# EAGLE library part ADXL312 (library analog)
3-Axis, Digital Accelerometer ±1.5 g/±3 g/±6 g/±12 g
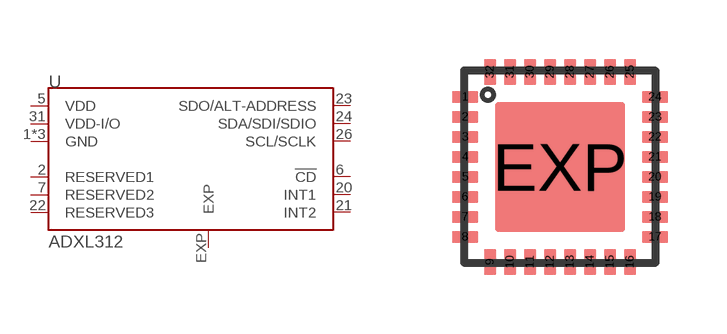
[diagram p4: symbol with the pads of LFCSP32; footprint LFCSP32]

Designator prefix -

## ADXL312  [LFCSP32]
1  GND  in
2  RESERVED1
3  GND  in
4  GND  in
5  VDD  in
6  !CD  pwr
7  RESERVED2  pwr
20  INT1  pwr
21  INT2  nc
22  RESERVED3  nc
23  SDO/ALT-ADDRESS  out
24  SDA/SDI/SDIO  out
26  SCL/SCLK
31  VDD-I/O  pwr
EXP  EXP

## Footprint LFCSP32 (pad centres in mm)
LFCSP-32
smd 0.65 x 0.3: 1 -2.375,1.75; 2 -2.375,1.25; 3 -2.375,0.75; 4 -2.375,0.25; 5 -2.375,-0.25; 6 -2.375,-0.75; 7 -2.375,-1.25; 8 -2.375,-1.75; 17 2.375,-1.75; 18 2.375,-1.25; 19 2.375,-0.75; 20 2.375,-0.25; 21 2.375,0.25; 22 2.375,0.75; 23 2.375,1.25; 24 2.375,1.75
smd 0.3 x 0.65: 9 -1.75,-2.375; 10 -1.25,-2.375; 11 -0.75,-2.375; 12 -0.25,-2.375; 13 0.25,-2.375; 14 0.75,-2.375; 15 1.25,-2.375; 16 1.75,-2.375; 25 1.75,2.375; 26 1.25,2.375; 27 0.75,2.375; 28 0.25,2.375; 29 -0.25,2.375; 30 -0.75,2.375; 31 -1.25,2.375; 32 -1.75,2.375
smd 3.25 x 3.25: EXP 0,0